# Altium footprint library STM32 V3.11.PcbLib: 42 footprints (part 2 of 3)
Each footprint in its own frame and in the unit in brackets; x right, y up, seen from the top. Pads: shape width x height; smd on the part's side, far side on the other; paste and mask are expansions set on the pad; w line width, h text height; cw(c..) or ccw(c..) is an arc to the next point about the centre after c.
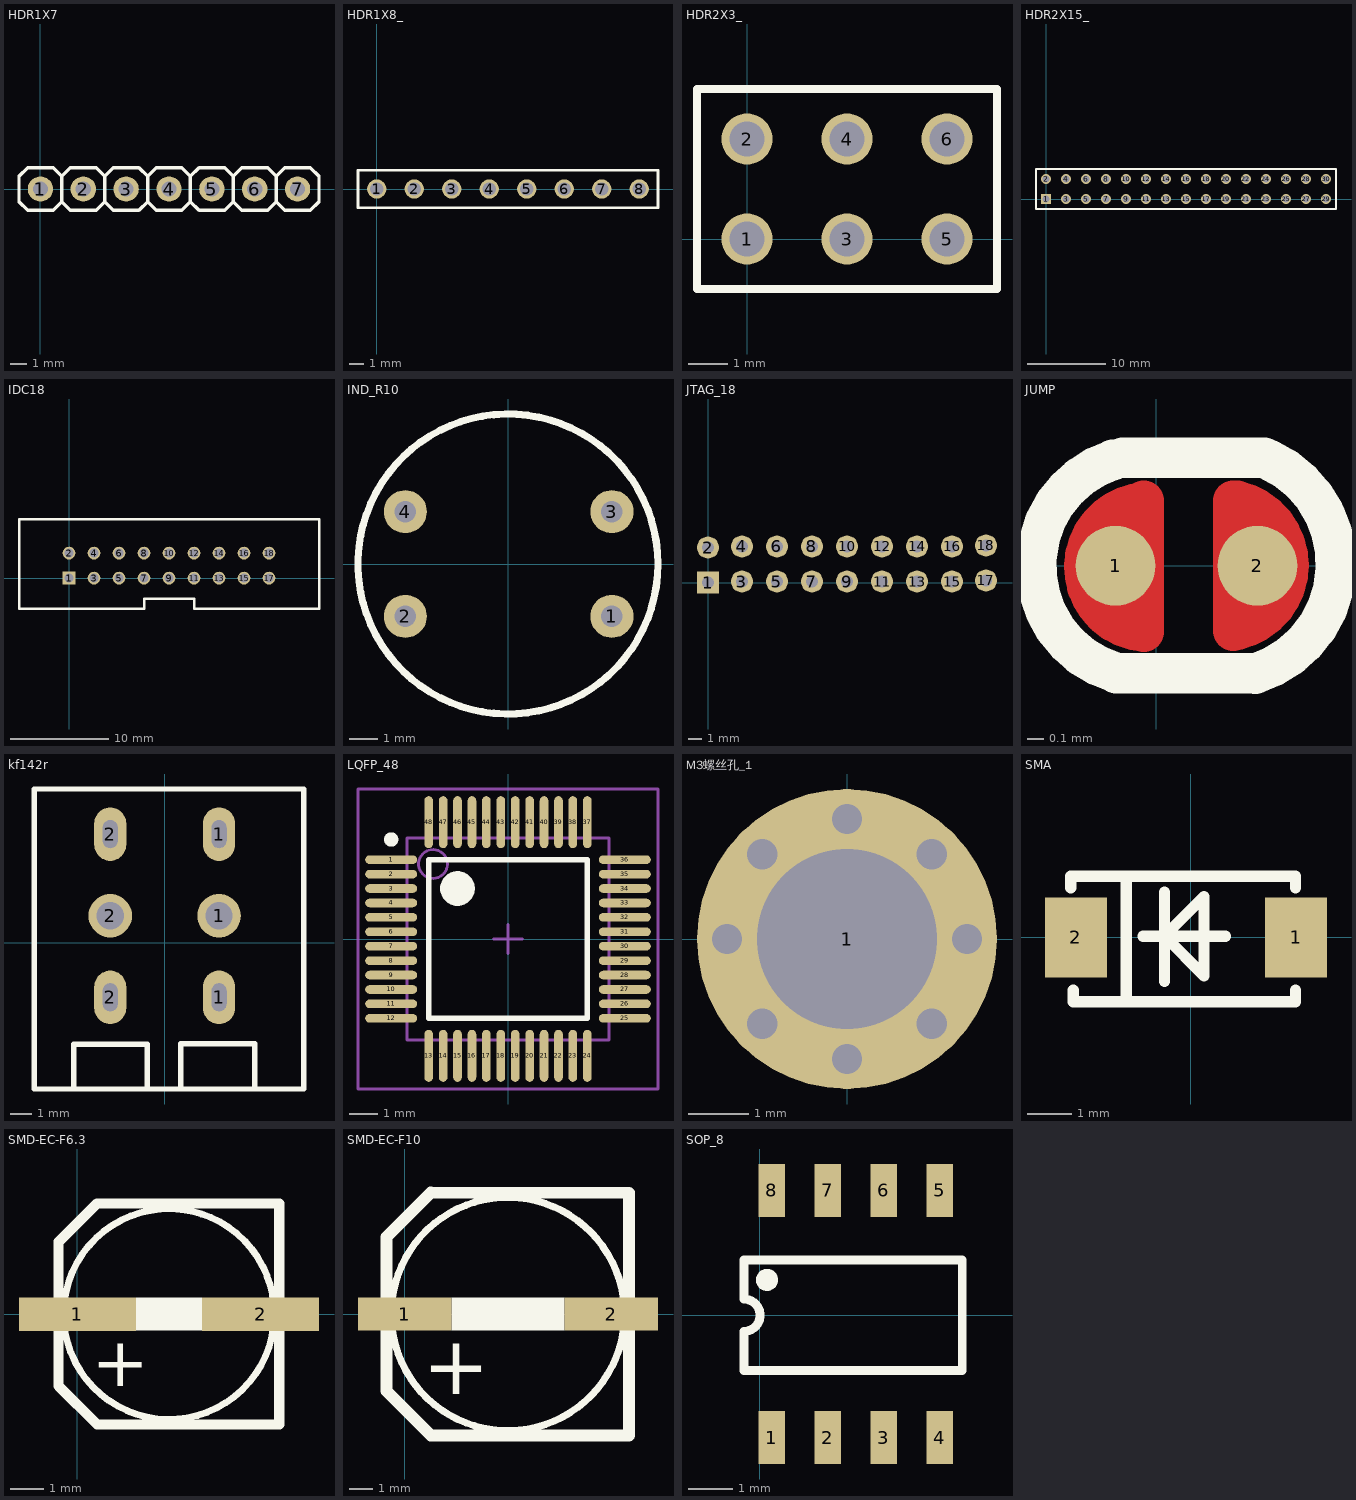
[diagram p1: the footprints below, top view; thin cyan lines are the x and y axes]

## HDR1X7 [mm]
pads (7):
  round 1.5 hole 0.9: 1(0,0) 2(2.54,0) 3(5.08,0) 4(7.62,0) 5(10.16,0) 6(12.7,0) 7(15.24,0)
Top Overlay:
  lines w0.2: 1.27,-0.762 1.778,-1.27 3.302,-1.27 3.81,-0.762 ; 1.27,-0.762 0.762,-1.27 -0.762,-1.27 -1.27,-0.762 -1.27,0.762 -0.762,1.27 0.762,1.27 1.27,0.762 ; 1.27,-0.762 1.27,0.762 ; 1.27,0.762 1.778,1.27 3.302,1.27 3.81,0.762 ; 3.81,-0.762 3.81,0.762 ; 3.81,-0.762 4.318,-1.27 5.842,-1.27 6.35,-0.762 ; 3.81,-0.762 3.81,0.762 ; 3.81,0.762 4.318,1.27 5.842,1.27 6.35,0.762 ; 6.35,-0.762 6.858,-1.27 8.382,-1.27 8.89,-0.762 ; 6.35,-0.762 6.35,0.762 ; 6.35,0.762 6.858,1.27 8.382,1.27 8.89,0.762 ; 8.89,-0.762 8.89,0.762 ; 8.89,-0.762 9.398,-1.27 10.922,-1.27 11.43,-0.762 ; 8.89,-0.762 8.89,0.762 ; 8.89,0.762 9.398,1.27 10.922,1.27 11.43,0.762 ; 11.43,-0.762 11.43,0.762 ; 11.43,-0.762 11.938,-1.27 13.462,-1.27 13.97,-0.762 ; 11.43,0.762 11.938,1.27 13.462,1.27 13.97,0.762 ; 13.97,-0.762 13.97,0.762 ; 13.97,-0.762 14.478,-1.27 16.002,-1.27 16.51,-0.762 16.51,0.762 16.002,1.27 14.478,1.27 13.97,0.762
3D body: height 7.58, standoff -2.94, extent 13.97,-1.27 16.51,1.27
3D body: height 7.58, standoff -2.94, extent 8.89,-1.27 11.43,1.27
3D body: height 7.58, standoff -2.94, extent -1.27,-1.27 1.27,1.27
3D body: height 7.58, standoff -2.94, extent 1.27,-1.27 3.81,1.27
3D body: height 7.58, standoff -2.94, extent 3.81,-1.27 6.35,1.27
3D body: height 7.58, standoff -2.94, extent 6.35,-1.27 8.89,1.27
3D body: height 7.58, standoff -2.94, extent 11.43,-1.27 13.97,1.27

## HDR1X8_ [mm]
pads (8):
  round 1.3 / inner round 1.5 / far side round 1.5 hole 0.9: 1(0,0) 2(2.54,0) 3(5.08,0) 4(7.62,0) 5(10.16,0) 6(12.7,0) 7(15.24,0) 8(17.78,0)
Top Overlay:
  lines w0.2: 3.81,-1.27 19.05,-1.27 19.05,1.27 3.81,1.27 ; 13.97,-1.27 -1.27,-1.27 -1.27,1.27 13.97,1.27
3D body: height 8.2, standoff -3.1, extent 3.78,-1.27 6.32,1.27
3D body: height 8.2, standoff -3.1, extent 16.48,-1.27 19.02,1.27
3D body: height 8.2, standoff -3.1, extent 13.94,-1.27 16.48,1.27
3D body: height 8.2, standoff -3.1, extent 8.86,-1.27 11.4,1.27
3D body: height 8.2, standoff -3.1, extent 11.4,-1.27 13.94,1.27
3D body: height 8.2, standoff -3.1, extent 6.32,-1.27 8.86,1.27
3D body: height 8.2, standoff -3.1, extent -1.3,-1.27 1.24,1.27
3D body: height 8.2, standoff -3.1, extent 1.24,-1.27 3.78,1.27

## HDR2X3_ [mm]
pads (6):
  round 1.3 / inner round 1.5 / far side round 1.5 hole 0.9: 1(0,0) 2(0,2.54) 3(2.54,0) 4(2.54,2.54) 5(5.08,0) 6(5.08,2.54)
Top Overlay:
  lines w0.2: 1.482,-1.27 6.35,-1.27 ; 6.35,-1.27 6.35,3.81 -1.27,3.81 -1.27,-1.27 6.35,-1.27
3D body: height 8.2, standoff -3.1, extent -1.3,1.27 1.24,3.81
3D body: height 8.2, standoff -3.1, extent 1.24,1.27 3.78,3.81
3D body: height 8.2, standoff -3.1, extent 3.78,1.27 6.32,3.81
3D body: height 8.2, standoff -3.1, extent -1.3,-1.27 1.24,1.27
3D body: height 8.2, standoff -3.1, extent 1.24,-1.27 3.78,1.27
3D body: height 8.2, standoff -3.1, extent 3.78,-1.27 6.32,1.27

## HDR2X15_ [mm]
pads (30):
  rect 1.3x1.3 / inner rect 1.5x1.5 / far side rect 1.5x1.5 hole 0.9: 1(0,0)
  round 1.3 / inner round 1.5 / far side round 1.5 hole 0.9: 2(0,2.54) 3(2.54,0) 4(2.54,2.54) 5(5.08,0) 6(5.08,2.54) 7(7.62,0) 8(7.62,2.54) 9(10.16,0) 10(10.16,2.54) 11(12.7,0) 12(12.7,2.54) 13(15.24,0) 14(15.24,2.54) 15(17.78,0) 16(17.78,2.54) 17(20.32,0) 18(20.32,2.54) 19(22.86,0) 20(22.86,2.54) 21(25.4,0) 22(25.4,2.54) 23(27.94,0) 24(27.94,2.54) 25(30.48,0) 26(30.48,2.54) 27(33.02,0) 28(33.02,2.54) 29(35.56,0) 30(35.56,2.54)
Top Overlay:
  lines w0.2: -1.27,-1.27 -1.27,3.81 36.83,3.81 36.83,-1.27 -1.27,-1.27
3D body: height 8.2, standoff -3.1, extent 1.24,-1.27 3.78,1.27
3D body: height 8.2, standoff -3.1, extent -1.3,-1.27 1.24,1.27
3D body: height 8.2, standoff -3.1, extent 6.32,-1.27 8.86,1.27
3D body: height 8.2, standoff -3.1, extent 3.78,-1.27 6.32,1.27
3D body: height 8.2, standoff -3.1, extent 11.4,-1.27 13.94,1.27
3D body: height 8.2, standoff -3.1, extent 8.86,-1.27 11.4,1.27
3D body: height 8.2, standoff -3.1, extent 13.94,-1.27 16.48,1.27
3D body: height 8.2, standoff -3.1, extent -1.3,1.27 1.24,3.81
3D body: height 8.2, standoff -3.1, extent 6.32,1.27 8.86,3.81
3D body: height 8.2, standoff -3.1, extent 1.24,1.27 3.78,3.81
3D body: height 8.2, standoff -3.1, extent 3.78,1.27 6.32,3.81
3D body: height 8.2, standoff -3.1, extent 11.4,1.27 13.94,3.81
3D body: height 8.2, standoff -3.1, extent 8.86,1.27 11.4,3.81
3D body: height 8.2, standoff -3.1, extent 16.48,1.27 19.02,3.81
3D body: height 8.2, standoff -3.1, extent 13.94,1.27 16.48,3.81
3D body: height 8.2, standoff -3.1, extent 21.56,-1.27 24.1,1.27
3D body: height 8.2, standoff -3.1, extent 19.02,-1.27 21.56,1.27
3D body: height 8.2, standoff -3.1, extent 24.1,-1.27 26.64,1.27
3D body: height 8.2, standoff -3.1, extent 16.48,-1.27 19.02,1.27
3D body: height 8.2, standoff -3.1, extent 29.18,-1.27 31.72,1.27
3D body: height 8.2, standoff -3.1, extent 26.64,-1.27 29.18,1.27
3D body: height 8.2, standoff -3.1, extent 34.26,-1.27 36.8,1.27
3D body: height 8.2, standoff -3.1, extent 31.72,-1.27 34.26,1.27
3D body: height 8.2, standoff -3.1, extent 21.56,1.27 24.1,3.81
3D body: height 8.2, standoff -3.1, extent 19.02,1.27 21.56,3.81
3D body: height 8.2, standoff -3.1, extent 26.64,1.27 29.18,3.81
3D body: height 8.2, standoff -3.1, extent 24.1,1.27 26.64,3.81
3D body: height 8.2, standoff -3.1, extent 31.72,1.27 34.26,3.81
3D body: height 8.2, standoff -3.1, extent 29.18,1.27 31.72,3.81
3D body: height 8.2, standoff -3.1, extent 34.26,1.27 36.8,3.81

## IDC18 [mm]
pads (18):
  rect 1.3x1.3 / inner rect 1.5x1.5 / far side rect 1.5x1.5 hole 0.9: 1(0,0)
  round 1.3 / inner round 1.5 / far side round 1.5 hole 0.9: 2(0,2.54) 3(2.54,0) 4(2.54,2.54) 5(5.08,0) 6(5.08,2.54) 7(7.62,0) 8(7.62,2.54) 9(10.16,0) 10(10.16,2.54) 11(12.7,0) 12(12.7,2.54) 13(15.24,0) 14(15.24,2.54) 15(17.78,0) 16(17.78,2.54) 17(20.32,0)
  round 1.3 / inner rect 1.5x1.5 / far side round 1.5 hole 0.9: 18(20.32,2.54)
Top Overlay:
  lines w0.254: -5.08,-3.099 -5.079,-3.1 7.62,-3.1 7.62,-2.1 12.7,-2.1 12.7,-3.1 25.4,-3.1 25.4,5.969 -5.08,5.969 -5.08,-3.099

## IND_R10 [mil]
pads (4):
  round 60 hole 30: 1(144.58,-72.84) 2(-142.83,-72.84) 3(144.58,72.83) 4(-142.83,72.83)
Top Overlay:
  circle w10: c0,0 r208.66

## JTAG_18 [mm]
pads (18):
  rect 1.6x1.6 / inner rect 1.6x1.6 / far side rect 1.2x1.2 hole 0.9: 1(0,0)
  round 1.6 / inner round 1.6 / far side round 1.2 hole 0.9: 2(0,2.54) 3(2.465,0.075) 4(2.465,2.615) 5(5.005,0.075) 6(5.005,2.615) 7(7.545,0.075) 8(7.545,2.615) 9(10.085,0.075) 10(10.085,2.615) 11(12.625,0.075) 12(12.625,2.615) 13(15.165,0.075) 14(15.165,2.615) 15(17.705,0.075) 16(17.705,2.615) 17(20.17,0.15) 18(20.17,2.69)

## JUMP [mm]
pads (2):
  round 0.5 smd: 1(-0.254,0) 2(0.635,0)
Top Layer:
  lines w0.254: -0.129,0.39 ccw(c-0.043,-0.007) -0.077,-0.412 -0.076,0.406 ; 0.483,-0.406 0.483,0 0.483,0.406 ; 0.508,0.406 cw(c0.417,0.003) 0.635,0.354 cw(c0.417,0.003) 0.635,-0.348 cw(c0.417,0.003) 0.51,-0.399
Top Overlay:
  lines w0.254: -0.272,0.663 ccw(c-0.054,-0.001) -0.259,-0.668 ; -0.249,-0.673 0.615,-0.673 ; -0.208,0.678 0.678,0.678 ; 0.62,-0.676 ccw(c0.409,0.011) 0.706,0.665
Top Solder:
  lines w1.143: -0.076,0 0.483,0

## kf142r [mm]
pads (6):
  oval 1.5x2.5 hole 0.7 slot 1.3 at 90 deg: 1(2.54,-2.54) 1(2.54,5.08) 2(-2.54,-2.54) 2(-2.54,5.08)
  round 2.032 hole 1.27: 1(2.54,1.27) 2(-2.54,1.27)
Top Overlay:
  lines w0.254: -4.254,-6.724 -4.254,-4.724 -0.814,-4.724 -0.814,-6.724 ; 0.743,-6.699 0.743,-4.699 4.203,-4.699 4.203,-6.699 ; -6.097,-6.82 6.503,-6.82 6.503,7.18 -6.097,7.187 -6.097,-6.82
3D body: height 8.5, standoff -3.6, extent -5.05,-6.3 5.15,6.2

## LQFP_48 [mm] "Thin QFP, 48-Leads, Body 7x7mm, Pitch 0.5mm, IPC Medium Density"
height 1.6
pads (48):
  oval 1.8x0.3 smd: 1(-4.05,2.75) 2(-4.05,2.25) 3(-4.05,1.75) 4(-4.05,1.25) 5(-4.05,0.75) 6(-4.05,0.25) 7(-4.05,-0.25) 8(-4.05,-0.75) 9(-4.05,-1.25) 10(-4.05,-1.75) 11(-4.05,-2.25) 12(-4.05,-2.75) 25(4.05,-2.75) 26(4.05,-2.25) 27(4.05,-1.75) 28(4.05,-1.25) 29(4.05,-0.75) 30(4.05,-0.25) 31(4.05,0.25) 32(4.05,0.75) 33(4.05,1.25) 34(4.05,1.75) 35(4.05,2.25) 36(4.05,2.75)
  oval 0.3x1.8 smd: 13(-2.75,-4.05) 14(-2.25,-4.05) 15(-1.75,-4.05) 16(-1.25,-4.05) 17(-0.75,-4.05) 18(-0.25,-4.05) 19(0.25,-4.05) 20(0.75,-4.05) 21(1.25,-4.05) 22(1.75,-4.05) 23(2.25,-4.05) 24(2.75,-4.05) 37(2.75,4.05) 38(2.25,4.05) 39(1.75,4.05) 40(1.25,4.05) 41(0.75,4.05) 42(0.25,4.05) 43(-0.25,4.05) 44(-0.75,4.05) 45(-1.25,4.05) 46(-1.75,4.05) 47(-2.25,4.05) 48(-2.75,4.05)
Top Overlay:
  circle w0.25: c-4.05,3.45 r0.125
  circle w0.6: c-1.75,1.75 r0.3
  lines w0.2: -2.75,-2.75 -2.75,2.75 2.75,2.75 2.75,-2.75 -2.75,-2.75
Mechanical 13:
  circle w0.1: c-2.6,2.6 r0.5
  lines w0.1: -3.5,-3.5 -3.5,3.5 3.5,3.5 3.5,-3.5 -3.5,-3.5
Mechanical 15:
  lines w0.1: -0.5,0 0.5,0 ; 0,-0.5 0,0.5 ; -5.2,-5.2 -5.2,5.2 5.2,5.2 5.2,-5.2 -5.2,-5.2
3D body: height 1.5, standoff 0, extent -4.5,-4.5 4.5,4.5

## M3螺丝孔 [mm]
via -2,0 diameter 1 hole 0.508
via -1.414,-1.414 diameter 1 hole 0.508
via 0,-2 diameter 1 hole 0.508
via 1.414,-1.414 diameter 1 hole 0.508
via 2,0 diameter 1 hole 0.508
via 1.414,1.414 diameter 1 hole 0.508
via 0,2 diameter 1 hole 0.508
via -1.414,1.414 diameter 1 hole 0.508
via 0,0 diameter 5 hole 3

## M3螺丝孔_1 [mm]
pads (1):
  round 5 hole 3: 1(0,0)
via -1.414,1.414 diameter 1 hole 0.508
via 0,2 diameter 1 hole 0.508
via 2,0 diameter 1 hole 0.508
via 1.414,-1.414 diameter 1 hole 0.508
via 0,-2 diameter 1 hole 0.508
via -1.414,-1.414 diameter 1 hole 0.508
via -2,0 diameter 1 hole 0.508
via 1.414,1.414 diameter 1 hole 0.508

## SMA [mm] "DO-214AC(2010)"
pads (2):
  rect 1.4x1.8 smd: 1(2.373,0) 2(-2.577,0)
Top Overlay:
  lines w0.254: -2.692,1.118 -2.692,1.372 2.362,1.372 2.362,1.118 ; -2.642,-1.194 -2.642,-1.448 2.362,-1.448 2.362,-1.194 ; -1.448,-1.372 -1.448,1.372 ; -1.067,0.025 0.787,0.025 ; -0.584,-0.991 -0.584,1.016 ; -0.584,0.025 0.305,0.914 0.305,-0.864 -0.584,0.025
3D body: height 2.4, standoff 0, extent -2.376,-1.35 2.224,1.35

## SMD-EC-F6.3 [mm]
pads (2):
  rect 3.5x1 smd: 1(0,0) 2(5.475,0)
Top Overlay:
  rectangle: 1.746,-0.496 3.73,0.5
  lines w0.203: 5.667,1.156 ccw(c2.736,0.002) 5.667,1.154
  lines w0.305: 0.587,-3.303 -0.564,-2.152 -0.564,2.163 0.587,3.314 ; 0.589,-3.305 6.036,-3.305 6.036,3.309 0.592,3.309
  text "+" at 0.43,-2.164 h1.5
3D body: height 5.9, standoff 0, extent -0.925,-3.3 6.375,3.3

## SMD-EC-F10 [mm]
pads (2):
  rect 4x1.4 smd: 1(0,0) 2(8.86,0)
Top Overlay:
  circle w0.305: c4.422,0 r5
  rectangle: 2.006,-0.701 6.849,0.707
  lines w0.508: 1.12,5.203 -0.778,3.306 -0.778,-3.304 1.12,-5.201 9.62,-5.201 9.62,5.2 1.123,5.2
  text "+" at 0.78,-3.44 h2.5
3D body: height 12.6, standoff 0, extent -1.08,-5.2 9.92,5.1

## SOP_8 [mm]
pads (8):
  rect 0.6x1.2 smd: 1(0.273,-2.773) 2(1.543,-2.773) 3(2.813,-2.773) 4(4.083,-2.773) 5(4.083,2.827) 6(2.813,2.827) 7(1.543,2.827) 8(0.273,2.827)
Top Overlay:
  circle w0.25: c0.166,0.8 r0.125
  lines w0.2: -0.358,-1.25 -0.358,-0.368 ccw(c-0.358,-0.001) -0.358,0.365 -0.358,1.25 4.591,1.25 4.591,-1.25 -0.358,-1.25